# Altium footprint library ARIES_LCQT-TSSOP14.PcbLib: 1 footprints
Each footprint in its own frame and in the unit in brackets; x right, y up, seen from the top. Pads: shape width x height; smd on the part's side, far side on the other; paste and mask are expansions set on the pad; w line width, h text height; cw(c..) or ccw(c..) is an arc to the next point about the centre after c.
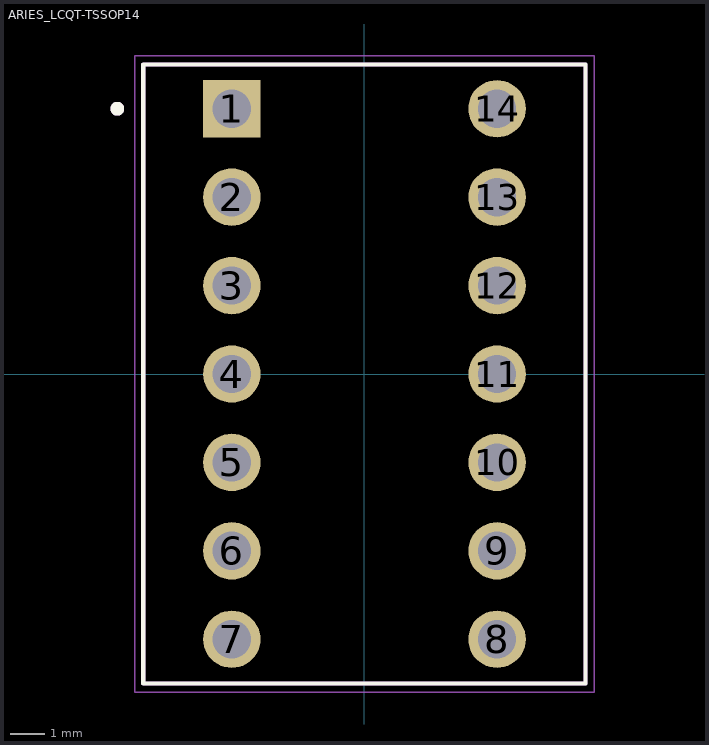
[diagram p0: the footprint, top view; thin cyan lines are the x and y axes]

## ARIES_LCQT-TSSOP14 [mm]
pads (14):
  rect 1.65x1.65 / inner round 1.65 / far side rect 1.65x1.65 hole 1.1: 1(-3.81,7.62)
  round 1.65 hole 1.1: 2(-3.81,5.08) 3(-3.81,2.54) 4(-3.81,0) 5(-3.81,-2.54) 6(-3.81,-5.08) 7(-3.81,-7.62) 8(3.81,-7.62) 9(3.81,-5.08) 10(3.81,-2.54) 11(3.81,0) 12(3.81,2.54) 13(3.81,5.08) 14(3.81,7.62)
Top Overlay:
  circle w0.2: c-7.1,7.62 r0.1
  lines w0.127: -6.35,-8.89 -6.35,8.89 6.35,8.89 6.35,-8.89 -6.35,-8.89
Mechanical 13:
  circle w0.2: c-7.1,7.62 r0.1
  lines w0.127: -6.35,-8.89 -6.35,8.89 6.35,8.89 6.35,-8.89 -6.35,-8.89
Mechanical 15:
  lines w0.05: -6.6,-9.14 -6.6,9.14 6.6,9.14 6.6,-9.14 -6.6,-9.14
3D body "step_temp.STEP": height 5, standoff -6.1, extent -6.35,-8.89 6.35,8.89